# Altium footprint library Net Tie.PcbLib: 33 footprints (part 3 of 3)
Each footprint in its own frame and in the unit in brackets; x right, y up, seen from the top. Pads: shape width x height; smd on the part's side, far side on the other; paste and mask are expansions set on the pad; w line width, h text height; cw(c..) or ccw(c..) is an arc to the next point about the centre after c.
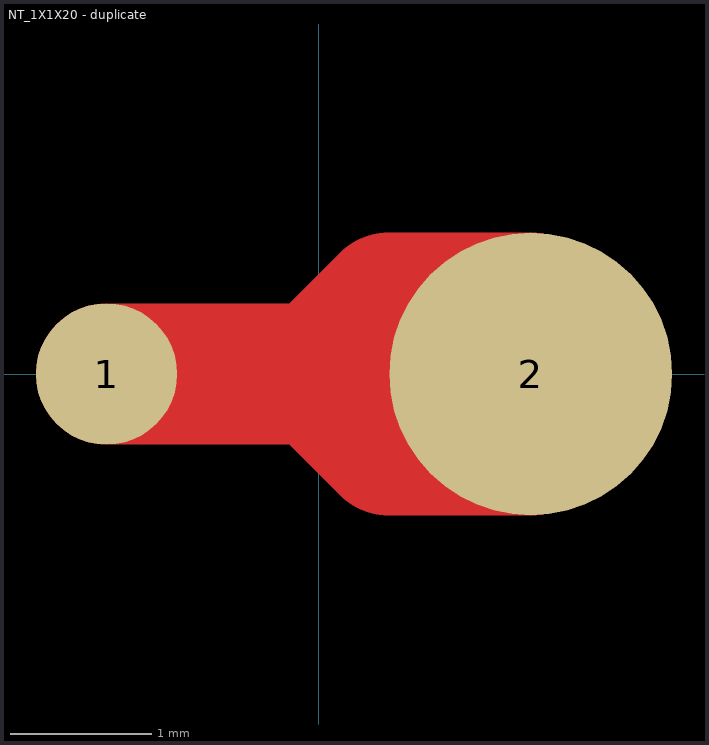
[diagram p2: the footprint, top view; thin cyan lines are the x and y axes]

## NT_1X1X20 - duplicate [mm] "NetTie One to One- 2.0mm width"
pads (2):
  round 1 smd mask-3: 1(-1.5,0)
  round 2 smd mask-3: 2(1.5,0)
Top Layer:
  lines w1: -1.5,0 1.5,0 ; 1.5,-0.5 0.5,-0.5 0,0 0.5,0.5 1.5,0.5